# Altium footprint library DRV8833_PWP_16.PcbLib: 3 footprints
Each footprint in its own frame and in the unit in brackets; x right, y up, seen from the top. Pads: shape width x height; smd on the part's side, far side on the other; paste and mask are expansions set on the pad; w line width, h text height; cw(c..) or ccw(c..) is an arc to the next point about the centre after c.
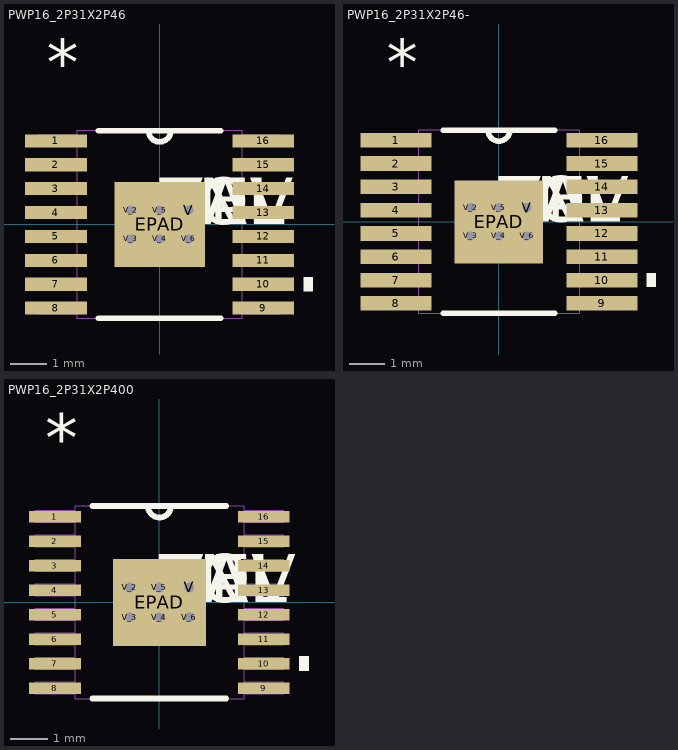
[diagram p0: the footprints below, top view; thin cyan lines are the x and y axes]

## PWP16_2P31X2P46 [mil]
pads (23):
  rect 66x14 smd: 1(-111,89.57) 2(-111,63.98) 3(-111,38.39) 4(-111,12.8) 5(-111,-12.8) 6(-111,-38.39) 7(-111,-63.98) 8(-111,-89.57) 9(111,-89.57) 10(111,-63.98) 11(111,-38.39) 12(111,-12.8) 13(111,12.8) 14(111,38.39) 15(111,63.98) 16(111,89.57)
  rect 96.85x90.94 smd paste-47.93 mask-48: EPAD(0,0)
  round 20 / inner round 60 / far side round 20 hole 10: V(31,15.5) V_2(-31,15.5) V_3(-31,-15.5) V_4(0,-15.5) V_5(0,15.5) V_6(31,-15.5)
Top Overlay:
  region: 154,-56.48 164,-56.48 164,-71.48 154,-71.48
  lines w6: -65.5,-100.5 65.5,-100.5 ; -65.5,100.5 65.5,100.5 ; -12,100.5 ccw(c0,100.5) 12,100.5
  text "*" at -121,148.57 h50
  text "PN" at 0,0 h50
  text "DEV" at 0,0 h50
  text "VAL" at 0,0 h50
  text "TOL" at 0,0 h50
Top Paste:
  region: -34.94,42.52 -45.48,42.52 -45.48,19.44 -40.5,19.44 -34.94,25
  region: -40.5,11.56 -45.48,11.56 -45.48,-11.56 -40.5,-11.56 -34.94,-6 -34.94,6
  region: -40.5,-19.44 -45.48,-19.44 -45.48,-42.52 -34.94,-42.52 -34.94,-25
  region: -3.94,42.52 -27.06,42.52 -27.06,25 -21.5,19.44 -9.5,19.44 -3.94,25
  region: -9.5,11.56 -21.5,11.56 -27.06,6 -27.06,-6 -21.5,-11.56 -9.5,-11.56 -3.94,-6 -3.94,6
  region: -9.5,-19.44 -21.5,-19.44 -27.06,-25 -27.06,-42.52 -3.94,-42.52 -3.94,-25
  region: 27.06,42.52 3.94,42.52 3.94,25 9.5,19.44 21.5,19.44 27.06,25
  region: 21.5,11.56 9.5,11.56 3.94,6 3.94,-6 9.5,-11.56 21.5,-11.56 27.06,-6 27.06,6
  region: 21.5,-19.44 9.5,-19.44 3.94,-25 3.94,-42.52 27.06,-42.52 27.06,-25
  region: 45.48,42.52 34.94,42.52 34.94,25 40.5,19.44 45.48,19.44
  region: 45.48,11.56 40.5,11.56 34.94,6 34.94,-6 40.5,-11.56 45.48,-11.56
  region: 45.48,-19.44 40.5,-19.44 34.94,-25 34.94,-42.52 45.48,-42.52
Top Solder:
  region: -50.93,23.37 -50.93,47.97 50.93,47.97 50.93,23.37
  region: -50.93,-7.63 -50.93,7.63 50.93,7.63 50.93,-7.63
  region: -50.93,-47.97 -50.93,-23.37 50.93,-23.37 50.93,-47.97
  region: -50.93,-47.97 -50.93,47.97 -38.87,47.97 -38.87,-47.97
  region: -7.87,-47.97 -7.87,47.97 -23.13,47.97 -23.13,-47.97
  region: 23.13,-47.97 23.13,47.97 7.87,47.97 7.87,-47.97
  region: 38.87,-47.97 38.87,47.97 50.93,47.97 50.93,-47.97
Mechanical 1:
  lines w0: -12,100.5 ccw(c0,100.5) 12,100.5 ; -130,-95.57 -130,-83.57 -88.5,-83.57 -88.5,-95.57 -130,-95.57 ; -130,-69.98 -130,-57.98 -88.5,-57.98 -88.5,-69.98 -130,-69.98 ; -130,-44.39 -130,-32.39 -88.5,-32.39 -88.5,-44.39 -130,-44.39 ; -130,-18.8 -130,-6.8 -88.5,-6.8 -88.5,-18.8 -130,-18.8 ; -130,6.8 -130,18.8 -88.5,18.8 -88.5,6.8 -130,6.8 ; -130,32.39 -130,44.39 -88.5,44.39 -88.5,32.39 -130,32.39 ; -130,57.98 -130,69.98 -88.5,69.98 -88.5,57.98 -130,57.98 ; -130,83.57 -130,95.57 -88.5,95.57 -88.5,83.57 -130,83.57 ; -88.5,-100.5 88.5,-100.5 88.5,100.5 -88.5,100.5 -88.5,-100.5 ; 88.5,-95.57 88.5,-83.57 130,-83.57 130,-95.57 88.5,-95.57 ; 88.5,-69.98 88.5,-57.98 130,-57.98 130,-69.98 88.5,-69.98 ; 88.5,-44.39 88.5,-32.39 130,-32.39 130,-44.39 88.5,-44.39 ; 88.5,-18.8 88.5,-6.8 130,-6.8 130,-18.8 88.5,-18.8 ; 88.5,6.8 88.5,18.8 130,18.8 130,6.8 88.5,6.8 ; 88.5,32.39 88.5,44.39 130,44.39 130,32.39 88.5,32.39 ; 88.5,57.98 88.5,69.98 130,69.98 130,57.98 88.5,57.98 ; 88.5,83.57 88.5,95.57 130,95.57 130,83.57 88.5,83.57
  text "*" at -121,148.57 h50
  text "RefDes2" at 0,0 h50

## PWP16_2P31X2P46- [mil]
pads (23):
  rect 78x16 smd: 1(-113,89.57) 2(-113,63.98) 3(-113,38.39) 4(-113,12.8) 5(-113,-12.8) 6(-113,-38.39) 7(-113,-63.98) 8(-113,-89.57) 9(113,-89.57) 10(113,-63.98) 11(113,-38.39) 12(113,-12.8) 13(113,12.8) 14(113,38.39) 15(113,63.98) 16(113,89.57)
  rect 96.85x90.94 smd paste-47.93 mask-48: EPAD(0,0)
  round 20 / inner round 60 / far side round 20 hole 10: V(31,15.5) V_2(-31,15.5) V_3(-31,-15.5) V_4(0,-15.5) V_5(0,15.5) V_6(31,-15.5)
Top Overlay:
  region: 162,-56.48 172,-56.48 172,-71.48 162,-71.48
  lines w6: -61.23,-100.5 61.23,-100.5 ; -61.23,100.5 61.23,100.5 ; -12,100.5 ccw(c0,100.5) 12,100.5
  text "*" at -123,150.57 h50
  text "PN" at 0,0 h50
  text "DEV" at 0,0 h50
  text "VAL" at 0,0 h50
  text "TOL" at 0,0 h50
Top Paste:
  region: -34.94,42.52 -45.48,42.52 -45.48,19.44 -40.5,19.44 -34.94,25
  region: -40.5,11.56 -45.48,11.56 -45.48,-11.56 -40.5,-11.56 -34.94,-6 -34.94,6
  region: -40.5,-19.44 -45.48,-19.44 -45.48,-42.52 -34.94,-42.52 -34.94,-25
  region: -3.94,42.52 -27.06,42.52 -27.06,25 -21.5,19.44 -9.5,19.44 -3.94,25
  region: -9.5,11.56 -21.5,11.56 -27.06,6 -27.06,-6 -21.5,-11.56 -9.5,-11.56 -3.94,-6 -3.94,6
  region: -9.5,-19.44 -21.5,-19.44 -27.06,-25 -27.06,-42.52 -3.94,-42.52 -3.94,-25
  region: 27.06,42.52 3.94,42.52 3.94,25 9.5,19.44 21.5,19.44 27.06,25
  region: 21.5,11.56 9.5,11.56 3.94,6 3.94,-6 9.5,-11.56 21.5,-11.56 27.06,-6 27.06,6
  region: 21.5,-19.44 9.5,-19.44 3.94,-25 3.94,-42.52 27.06,-42.52 27.06,-25
  region: 45.48,42.52 34.94,42.52 34.94,25 40.5,19.44 45.48,19.44
  region: 45.48,11.56 40.5,11.56 34.94,6 34.94,-6 40.5,-11.56 45.48,-11.56
  region: 45.48,-19.44 40.5,-19.44 34.94,-25 34.94,-42.52 45.48,-42.52
Top Solder:
  region: -50.93,23.37 -50.93,47.97 50.93,47.97 50.93,23.37
  region: -50.93,-7.63 -50.93,7.63 50.93,7.63 50.93,-7.63
  region: -50.93,-47.97 -50.93,-23.37 50.93,-23.37 50.93,-47.97
  region: -50.93,-47.97 -50.93,47.97 -38.87,47.97 -38.87,-47.97
  region: -7.87,-47.97 -7.87,47.97 -23.13,47.97 -23.13,-47.97
  region: 23.13,-47.97 23.13,47.97 7.87,47.97 7.87,-47.97
  region: 38.87,-47.97 38.87,47.97 50.93,47.97 50.93,-47.97
Mechanical 1:
  lines w0: -12,100.5 ccw(c0,100.5) 12,100.5 ; -130,-95.57 -130,-83.57 -88.5,-83.57 -88.5,-95.57 -130,-95.57 ; -130,-69.98 -130,-57.98 -88.5,-57.98 -88.5,-69.98 -130,-69.98 ; -130,-44.39 -130,-32.39 -88.5,-32.39 -88.5,-44.39 -130,-44.39 ; -130,-18.8 -130,-6.8 -88.5,-6.8 -88.5,-18.8 -130,-18.8 ; -130,6.8 -130,18.8 -88.5,18.8 -88.5,6.8 -130,6.8 ; -130,32.39 -130,44.39 -88.5,44.39 -88.5,32.39 -130,32.39 ; -130,57.98 -130,69.98 -88.5,69.98 -88.5,57.98 -130,57.98 ; -130,83.57 -130,95.57 -88.5,95.57 -88.5,83.57 -130,83.57 ; -88.5,-100.5 88.5,-100.5 88.5,100.5 -88.5,100.5 -88.5,-100.5 ; 88.5,-95.57 88.5,-83.57 130,-83.57 130,-95.57 88.5,-95.57 ; 88.5,-69.98 88.5,-57.98 130,-57.98 130,-69.98 88.5,-69.98 ; 88.5,-44.39 88.5,-32.39 130,-32.39 130,-44.39 88.5,-44.39 ; 88.5,-18.8 88.5,-6.8 130,-6.8 130,-18.8 88.5,-18.8 ; 88.5,6.8 88.5,18.8 130,18.8 130,6.8 88.5,6.8 ; 88.5,32.39 88.5,44.39 130,44.39 130,32.39 88.5,32.39 ; 88.5,57.98 88.5,69.98 130,69.98 130,57.98 88.5,57.98 ; 88.5,83.57 88.5,95.57 130,95.57 130,83.57 88.5,83.57
  text "*" at -123,150.57 h50
  text "RefDes2" at 0,0 h50

## PWP16_2P31X2P400 [mil]
pads (23):
  rect 54x12 smd: 1(-109,89.57) 2(-109,63.98) 3(-109,38.39) 4(-109,12.8) 5(-109,-12.8) 6(-109,-38.39) 7(-109,-63.98) 8(-109,-89.57) 9(109,-89.57) 10(109,-63.98) 11(109,-38.39) 12(109,-12.8) 13(109,12.8) 14(109,38.39) 15(109,63.98) 16(109,89.57)
  rect 96.85x90.94 smd paste-47.93 mask-48: EPAD(0,0)
  round 20 / inner round 60 / far side round 20 hole 10: V(31,15.5) V_2(-31,15.5) V_3(-31,-15.5) V_4(0,-15.5) V_5(0,15.5) V_6(31,-15.5)
Top Overlay:
  region: 146,-56.48 156,-56.48 156,-71.48 146,-71.48
  lines w6: -69.86,-100.5 69.86,-100.5 ; -69.86,100.5 69.86,100.5 ; -12,100.5 ccw(c0,100.5) 12,100.5
  text "*" at -119,146.57 h50
  text "PN" at 0,0 h50
  text "DEV" at 0,0 h50
  text "VAL" at 0,0 h50
  text "TOL" at 0,0 h50
Top Paste:
  region: -34.94,42.52 -45.48,42.52 -45.48,19.44 -40.5,19.44 -34.94,25
  region: -40.5,11.56 -45.48,11.56 -45.48,-11.56 -40.5,-11.56 -34.94,-6 -34.94,6
  region: -40.5,-19.44 -45.48,-19.44 -45.48,-42.52 -34.94,-42.52 -34.94,-25
  region: -3.94,42.52 -27.06,42.52 -27.06,25 -21.5,19.44 -9.5,19.44 -3.94,25
  region: -9.5,11.56 -21.5,11.56 -27.06,6 -27.06,-6 -21.5,-11.56 -9.5,-11.56 -3.94,-6 -3.94,6
  region: -9.5,-19.44 -21.5,-19.44 -27.06,-25 -27.06,-42.52 -3.94,-42.52 -3.94,-25
  region: 27.06,42.52 3.94,42.52 3.94,25 9.5,19.44 21.5,19.44 27.06,25
  region: 21.5,11.56 9.5,11.56 3.94,6 3.94,-6 9.5,-11.56 21.5,-11.56 27.06,-6 27.06,6
  region: 21.5,-19.44 9.5,-19.44 3.94,-25 3.94,-42.52 27.06,-42.52 27.06,-25
  region: 45.48,42.52 34.94,42.52 34.94,25 40.5,19.44 45.48,19.44
  region: 45.48,11.56 40.5,11.56 34.94,6 34.94,-6 40.5,-11.56 45.48,-11.56
  region: 45.48,-19.44 40.5,-19.44 34.94,-25 34.94,-42.52 45.48,-42.52
Top Solder:
  region: -50.93,23.37 -50.93,47.97 50.93,47.97 50.93,23.37
  region: -50.93,-7.63 -50.93,7.63 50.93,7.63 50.93,-7.63
  region: -50.93,-47.97 -50.93,-23.37 50.93,-23.37 50.93,-47.97
  region: -50.93,-47.97 -50.93,47.97 -38.87,47.97 -38.87,-47.97
  region: -7.87,-47.97 -7.87,47.97 -23.13,47.97 -23.13,-47.97
  region: 23.13,-47.97 23.13,47.97 7.87,47.97 7.87,-47.97
  region: 38.87,-47.97 38.87,47.97 50.93,47.97 50.93,-47.97
Mechanical 1:
  lines w0: -12,100.5 ccw(c0,100.5) 12,100.5 ; -130,-95.57 -130,-83.57 -88.5,-83.57 -88.5,-95.57 -130,-95.57 ; -130,-69.98 -130,-57.98 -88.5,-57.98 -88.5,-69.98 -130,-69.98 ; -130,-44.39 -130,-32.39 -88.5,-32.39 -88.5,-44.39 -130,-44.39 ; -130,-18.8 -130,-6.8 -88.5,-6.8 -88.5,-18.8 -130,-18.8 ; -130,6.8 -130,18.8 -88.5,18.8 -88.5,6.8 -130,6.8 ; -130,32.39 -130,44.39 -88.5,44.39 -88.5,32.39 -130,32.39 ; -130,57.98 -130,69.98 -88.5,69.98 -88.5,57.98 -130,57.98 ; -130,83.57 -130,95.57 -88.5,95.57 -88.5,83.57 -130,83.57 ; -88.5,-100.5 88.5,-100.5 88.5,100.5 -88.5,100.5 -88.5,-100.5 ; 88.5,-95.57 88.5,-83.57 130,-83.57 130,-95.57 88.5,-95.57 ; 88.5,-69.98 88.5,-57.98 130,-57.98 130,-69.98 88.5,-69.98 ; 88.5,-44.39 88.5,-32.39 130,-32.39 130,-44.39 88.5,-44.39 ; 88.5,-18.8 88.5,-6.8 130,-6.8 130,-18.8 88.5,-18.8 ; 88.5,6.8 88.5,18.8 130,18.8 130,6.8 88.5,6.8 ; 88.5,32.39 88.5,44.39 130,44.39 130,32.39 88.5,32.39 ; 88.5,57.98 88.5,69.98 130,69.98 130,57.98 88.5,57.98 ; 88.5,83.57 88.5,95.57 130,95.57 130,83.57 88.5,83.57
  text "*" at -119,146.57 h50
  text "RefDes2" at 0,0 h50